# EAGLE library part CJMCU-1232 (library ipas)
CJMCU-1220 ADS1220 module
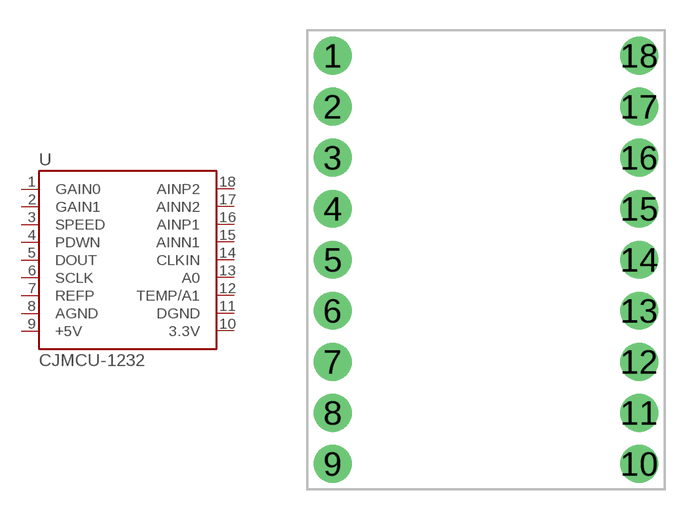
[diagram p46: symbol with the pads of CJMCU-1232; footprint CJMCU-1232]

Designator prefix U

## CJMCU-1232  [CJMCU-1232]
1  GAIN0
2  GAIN1
3  SPEED
4  PDWN
5  DOUT
6  SCLK
7  REFP
8  AGND
9  +5V
10  3.3V
11  DGND
12  TEMP/A1
13  A0
14  CLKIN
15  AINN1
16  AINP1
17  AINN2
18  AINP2

## Footprint CJMCU-1232 (pad centres in mm)
drill 1.016 pad 1.88: 1 -7.62,13.97; 2 -7.62,11.43; 3 -7.62,8.89; 4 -7.62,6.35; 5 -7.62,3.81; 6 -7.62,1.27; 7 -7.62,-1.27; 8 -7.62,-3.81; 9 -7.62,-6.35; 10 7.62,-6.35; 11 7.62,-3.81; 12 7.62,-1.27; 13 7.62,1.27; 14 7.62,3.81; 15 7.62,6.35; 16 7.62,8.89; 17 7.62,11.43; 18 7.62,13.97